# Altium footprint library passives.PcbLib: 30 footprints (part 2 of 2)
Each footprint in its own frame and in the unit in brackets; x right, y up, seen from the top. Pads: shape width x height; smd on the part's side, far side on the other; paste and mask are expansions set on the pad; w line width, h text height; cw(c..) or ccw(c..) is an arc to the next point about the centre after c.
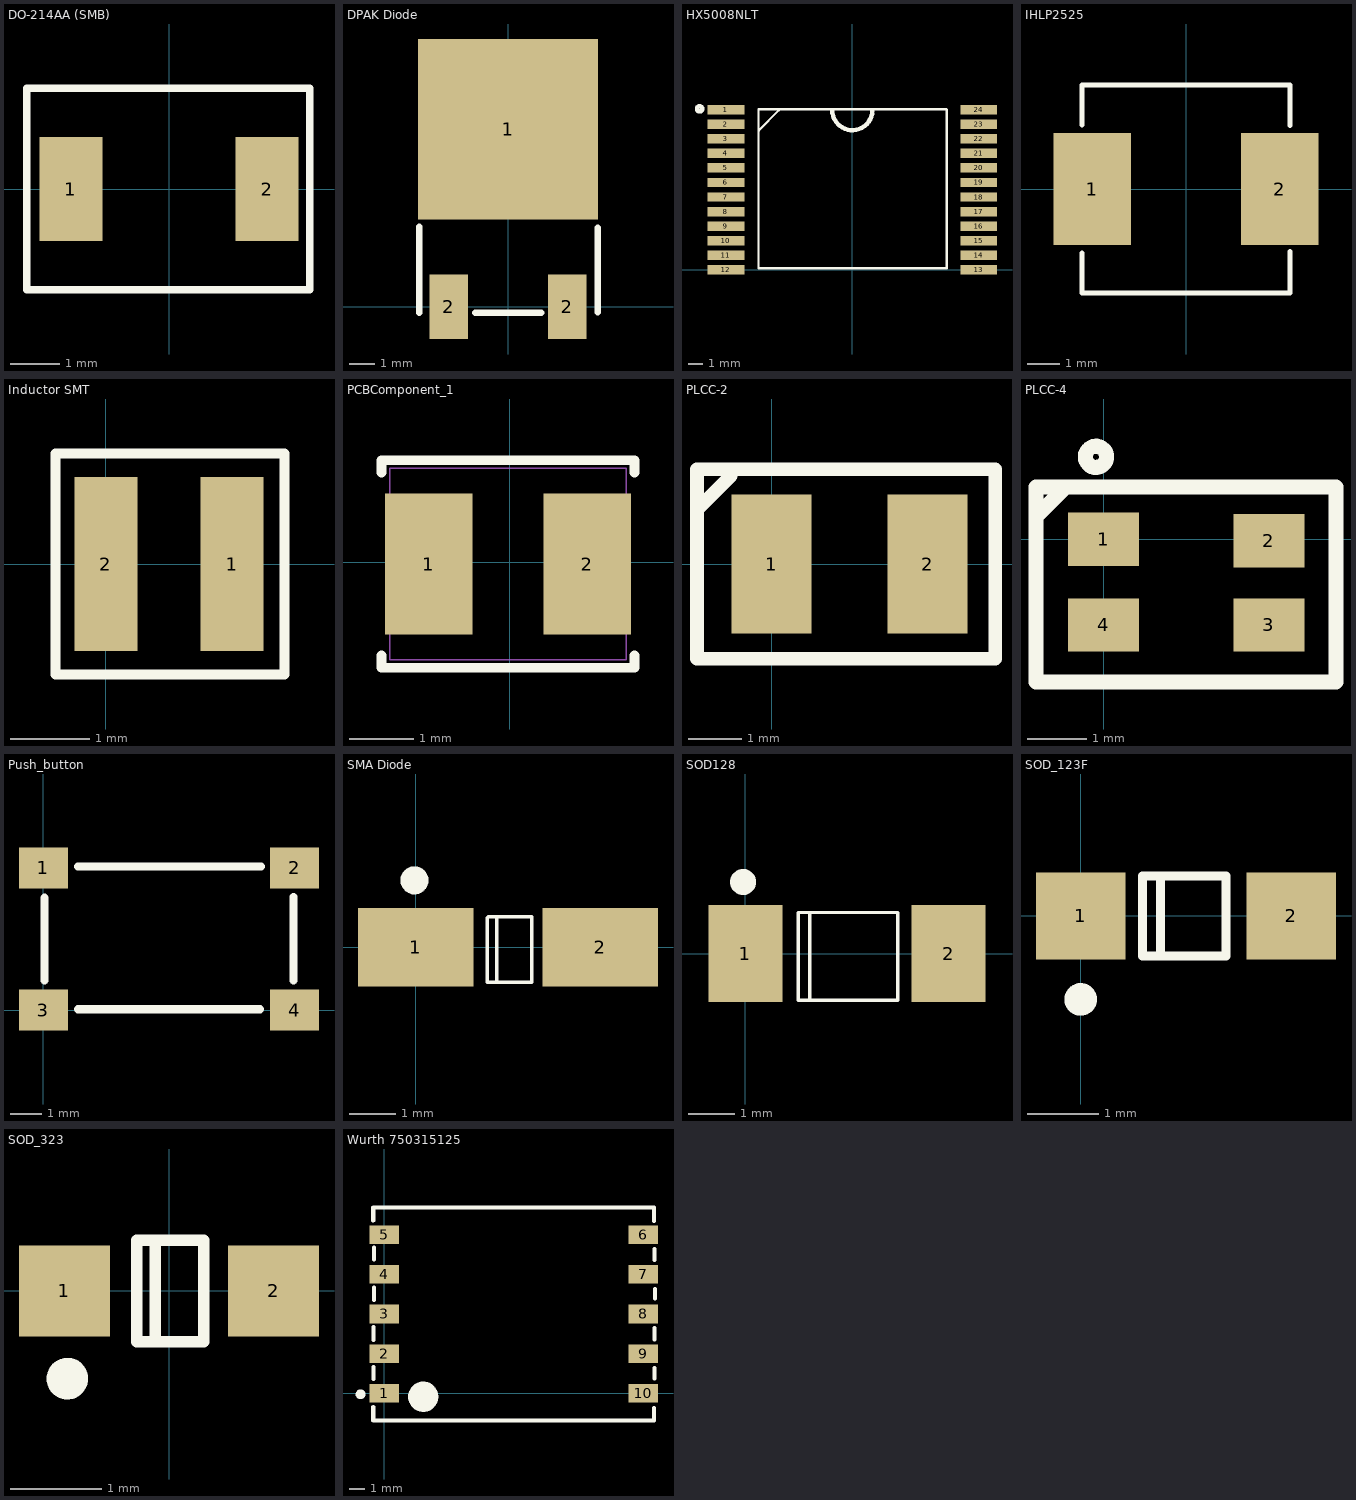
[diagram p1: the footprints below, top view; thin cyan lines are the x and y axes]

## DO-214AA (SMB) [mm]
pads (2):
  rect 1.27x2.1 smd: 1(-1.98,0) 2(1.98,0)
Top Overlay:
  lines w0.15: -2.87,-2.032 2.845,-2.032 2.845,2.032 -2.87,2.032 -2.87,-2.032
3D body: height 2.3, standoff 0, extent -2.125,-1.81 2.125,1.81

## DPAK Diode [mm]
pads (3):
  rect 7x7 smd: 1(0,6.9)
  rect 1.5x2.5 smd: 2(-2.3,0) 2(2.3,0)
Top Overlay:
  lines w0.254: -3.454,-0.229 -3.454,3.099 ; -1.27,-0.229 1.295,-0.229 ; 3.48,-0.203 3.48,3.073

## HX5008NLT [mm]
pads (24):
  rect 2.5x0.64 smd: 1(-8.6,10.89) 2(-8.6,9.9) 3(-8.6,8.91) 4(-8.6,7.92) 5(-8.6,6.94) 6(-8.6,5.94) 7(-8.6,4.95) 8(-8.6,3.96) 9(-8.6,2.97) 10(-8.6,1.98) 11(-8.6,0.99) 12(-8.6,0) 13(8.596,0) 14(8.596,0.99) 15(8.596,1.98) 16(8.596,2.97) 17(8.596,3.96) 18(8.596,4.95) 19(8.596,5.94) 20(8.596,6.94) 21(8.596,7.92) 22(8.596,8.91) 23(8.596,9.9) 24(8.596,10.89)
Top Overlay:
  circle w0.3: c-10.389,10.947 r0.178
  lines w0.15: -6.35,9.449 -6.35,9.5 -5.004,10.846 ; -6.375,0.102 6.426,0.102 6.426,10.897 6.401,10.922 -6.375,10.922 -6.375,0.102
  lines w0.3: -1.371,10.845 ccw(c0,10.871) 1.37,10.798
3D body: height 5.72, standoff 0, extent -8.585,-0.584 8.712,11.532

## IHLP2525 [mm]
pads (2):
  rect 2.4x3.5 smd: 1(-2.92,0) 2(2.92,0)
Top Overlay:
  lines w0.15: -3.24,-1.995 -3.24,-3.24 3.24,-3.24 3.24,-1.945 ; -3.24,1.992 -3.24,3.24 3.24,3.24 3.24,1.967
3D body: height 3, standoff 0, extent -3.124,-3.099 3.124,3.124

## Inductor SMT [mm]
pads (2):
  rect 0.8x2.2 smd: 1(1.6,0) 2(0,0)
Top Overlay:
  lines w0.127: -0.635,-1.397 2.261,-1.397 2.261,1.397 -0.635,1.397 -0.635,-1.397

## PCBComponent_1 [mil]
pads (2):
  rect 54x87 smd: 1(-50,-1) 2(48,-1)
Top Overlay:
  lines w6: -79,-57.45 -79,-65 77,-65 77,-57.45 ; -79,55.45 -79,63 77,63 77,55.45
Outline:
  lines w1: -74,-60 72,-60 72,58 -74,58 -74,-60

## PLCC-2 [mm]
pads (2):
  rect 1.5x2.6 smd: 1(0,0) 2(2.921,0)
Top Overlay:
  lines w0.254: -1.397,1.016 -0.762,1.651 ; -1.397,-1.778 4.191,-1.778 4.191,1.778 -1.397,1.778 -1.397,-1.778

## PLCC-4 [mm]
pads (4):
  rect 1.2x0.9 smd: 1(0,0) 2(2.8,-0.025) 3(2.8,-1.45) 4(0,-1.45)
Top Overlay:
  circle w0.254: c-0.127,1.397 r0.18
  lines w0.254: -1.143,0.381 -0.635,0.889 ; -1.143,-2.413 3.937,-2.413 3.937,0.889 -1.143,0.889 -1.143,-2.413

## Push_button [mm]
pads (4):
  rect 1.55x1.3 smd: 1(0,4.5) 2(7.95,4.5) 3(0,0) 4(7.95,0)
Top Overlay:
  lines w0.254: 0.025,0.94 0.025,3.556 ; 1.092,0.025 6.858,0.025 ; 1.092,4.547 6.883,4.547 ; 7.925,0.94 7.925,3.581

## SMA Diode [mm]
pads (2):
  rect 2.5x1.7 smd: 1(0,0) 2(4,0)
Top Overlay:
  circle w0.3: c-0.025,1.448 r0.155
  lines w0.075: 1.753,0.66 1.753,-0.737 1.778,-0.762 ; 1.549,-0.762 2.515,-0.762 2.515,0.66 1.575,0.66 1.549,0.635 1.549,-0.762
3D body: height 2.41, standoff 0, extent -0.61,-1.485 4.67,1.435

## SOD128 [mm]
pads (2):
  rect 1.6x2.1 smd: 1(0,0) 2(4.4,0)
Top Overlay:
  circle w0.3: c-0.051,1.549 r0.13
  lines w0.075: 1.397,-0.991 1.397,0.889 ; 1.143,-1.016 1.143,0.889 3.302,0.889 3.302,-1.016 1.143,-1.016

## SOD_123F [mm]
pads (2):
  rect 1.25x1.22 smd: 1(0,0) 2(2.95,0)
Top Overlay:
  circle w0.254: c0,-1.168 r0.102
  lines w0.127: 1.118,-0.559 1.118,0.559 ; 0.864,-0.559 2.032,-0.559 2.032,0.559 0.864,0.559 0.864,-0.559

## SOD_323 [mm]
pads (2):
  rect 1x1 smd: 1(-1.15,0) 2(1.15,0)
Top Overlay:
  circle w0.254: c-1.118,-0.965 r0.102
  lines w0.127: -0.152,-0.559 -0.152,0.559 ; -0.356,-0.559 0.381,-0.559 0.381,0.559 -0.356,0.559 -0.356,-0.559

## Wurth 750315125 [mm]
pads (10):
  rect 1.88x1.17 smd: 1(0,0) 2(0,2.5) 3(0,5) 4(0,7.5) 5(0,10) 6(16.36,10) 7(16.36,7.5) 8(16.36,5) 9(16.36,2.5) 10(16.36,0)
Top Overlay:
  circle w1.016: c2.464,-0.229 r0.444
  circle w0.3: c-1.499,-0.076 r0.161
  lines w0.254: -0.711,10.897 -0.695,10.913 -0.695,11.73 17.055,11.73 17.055,10.883 ; -0.695,-0.88 -0.695,-1.73 17.055,-1.73 17.055,-0.928 ; -0.686,0.889 -0.686,1.651 ; -0.686,3.353 -0.686,4.191 ; -0.66,5.893 -0.66,6.68 ; -0.66,8.433 -0.66,9.195 ; 17.069,0.914 17.069,1.6 ; 17.069,3.404 17.069,4.115 ; 17.069,8.407 17.069,9.119 ; 17.12,5.969 17.12,6.579